# EAGLE library part IC-MC33035-D (library Namenlos)
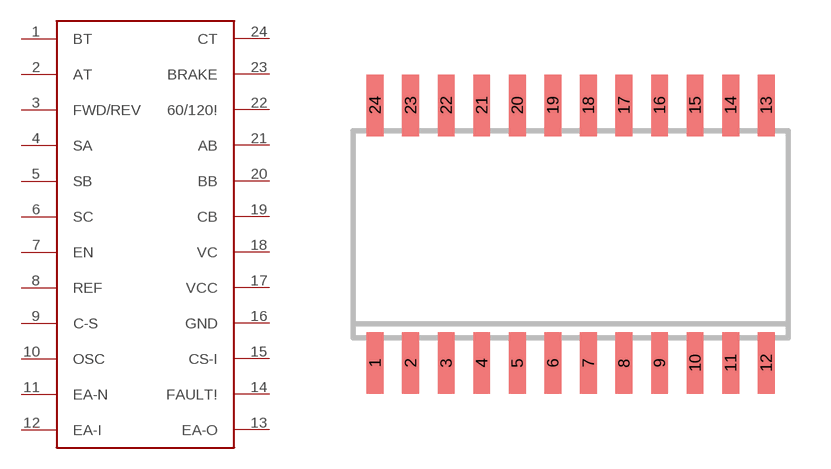
[diagram p37: symbol with the pads of SO24W; footprint SO24W]

Designator prefix -

## IC-MC33035-D  [SO24W]
1  BT
2  AT
3  FWD/REV
4  SA
5  SB
6  SC
7  EN
8  REF
9  C-S
10  OSC
11  EA-N
12  EA-I
13  EA-O
14  FAULT!
15  CS-I
16  GND
17  VCC
18  VC
19  CB
20  BB
21  AB
22  60/120!
23  BRAKE
24  CT

## Footprint SO24W (pad centres in mm)
SMALL OUTLINE INTEGRATED CIRCUIT wide body 7.5 mm/JEDEC MO-119AA
smd 0.6 x 2.2: 1 -6.985,-4.6; 2 -5.715,-4.6; 3 -4.445,-4.6; 4 -3.175,-4.6; 5 -1.905,-4.6; 6 -0.635,-4.6; 7 0.635,-4.6; 8 1.905,-4.6; 9 3.175,-4.6; 10 4.445,-4.6; 11 5.715,-4.6; 12 6.985,-4.6; 13 6.985,4.6; 14 5.715,4.6; 15 4.445,4.6; 16 3.175,4.6; 17 1.905,4.6; 18 0.635,4.6; 19 -0.635,4.6; 20 -1.905,4.6; 21 -3.175,4.6; 22 -4.445,4.6; 23 -5.715,4.6; 24 -6.985,4.6